# Altium integrated library Connector.IntLib: 2 symbols
Pins are listed as number, name and electrical type; pins without a type are passive.

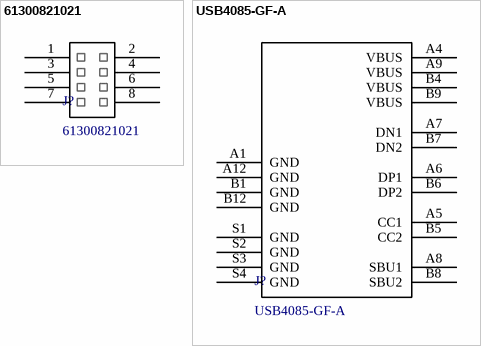
[diagram p0: symbols 61300821021 to USB4085-GF-A]

## 61300821021
designator J?
Connector Header Through Hole, Right Angle 8 position 0.100" (2.54mm); Manufacturer 1: Würth Elektronik; Supplier 1: Digi-Key; Supplier Part Number 1: 732-5353-ND; Manufacturer Part Number 1: 61300821021
footprint HDRRA8W64P254_2X4_1016X254X508P (Header, right angle, 2.54mm pitch; 0.635mm lead width, 8 pins, 2 rows, 4 pins per row, 10.16mm L X 2.54mm W X 5.08mm H body)
pins: 1, 2, 3, 4, 5, 6, 7, 8

## USB4085-GF-A
designator J?
USB-C (USB TYPE-C) USB 2.0 Receptacle Connector 24 (16+8 Dummy) Position Through Hole, Right Angle; Manufacturer 1: GCT; Supplier 1: Digi-Key; Supplier Part Number 1: 2073-USB4085-GF-ACT-ND; Manufacturer Part Number 1: USB4085-GF-A
footprint GCT_USB4085-GF-A
pins: A1 GND, A4 VBUS, A5 CC1, A6 DP1, A7 DN1, A8 SBU1, A9 VBUS, A12 GND, B1 GND, B4 VBUS, B5 CC2, B6 DP2, B7 DN2, B8 SBU2, B9 VBUS, B12 GND, S1 GND, S2 GND, S3 GND, S4 GND